# Altium schematic symbol library 06_Sensor_Components.SchLib: 4 symbols
Pins are listed as number, name and electrical type; pins without a type are passive.

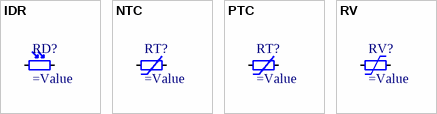
[diagram p0: symbols IDR to RV]

## IDR
designator RD?
光敏电阻
pins: 1, 2

## NTC
designator RT?
负温度系数热敏电阻
pins: 1, 2

## PTC
designator RT?
正温度系数热敏电阻
pins: 1, 2

## RV
designator RV?
压敏电阻
pins: 1, 2